# EAGLE library part LTC5510 (library muccc)
1MHz to 6GHz Wideband High Linearity Active Mixer
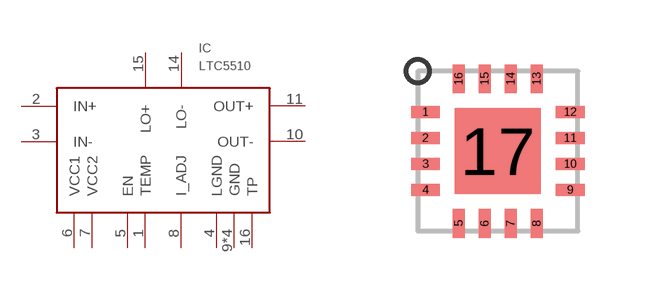
[diagram p5: symbol with the pads of QFN16; footprint QFN16]

Designator prefix IC

## LTC5510  [QFN16]
1  TEMP
2  IN+
3  IN-
4  LGND
5  EN
6  VCC1
7  VCC2
8  I_ADJ
9  GND
10  OUT-
11  OUT+
12  GND
13  GND
14  LO-
15  LO+
16  TP
17  GND

## Footprint QFN16 (pad centres in mm)
smd 0.72 x 0.3: 1 -1.81,0.975; 2 -1.81,0.325; 3 -1.81,-0.325; 4 -1.81,-0.975; 9 1.81,-0.975; 10 1.81,-0.325; 11 1.81,0.325; 12 1.81,0.975
smd 0.3 x 0.72: 5 -0.975,-1.81; 6 -0.325,-1.81; 7 0.325,-1.81; 8 0.975,-1.81; 13 0.975,1.81; 14 0.325,1.81; 15 -0.325,1.81; 16 -0.975,1.81
smd 2.15 x 2.15: 17 0,0